# Altium footprint library IPC-7355 CQFP_Sq_63P_Side_N.PcbLib: 4 footprints
Each footprint in its own frame and in the unit in brackets; x right, y up, seen from the top. Pads: shape width x height; smd on the part's side, far side on the other; paste and mask are expansions set on the pad; w line width, h text height; cw(c..) or ccw(c..) is an arc to the next point about the centre after c.
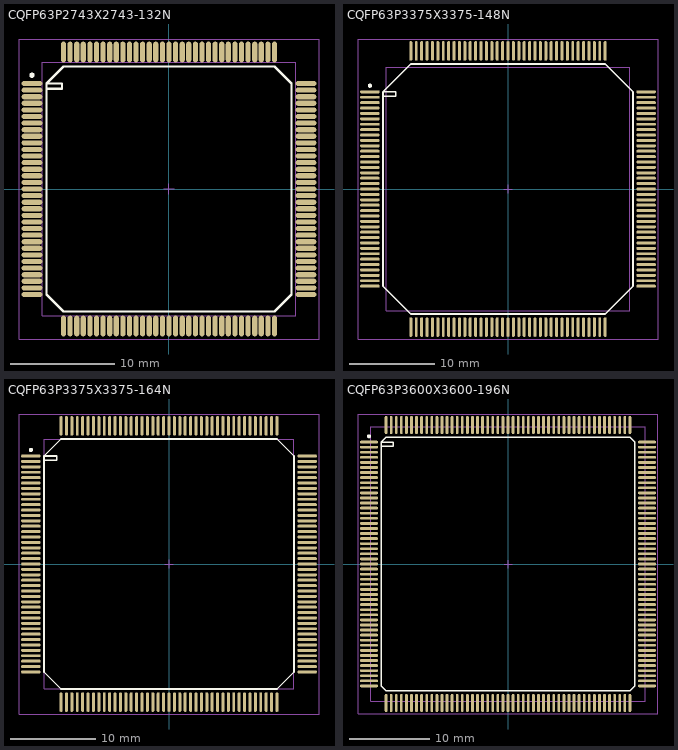
[diagram p0: the footprints below, top view; thin cyan lines are the x and y axes]

## CQFP63P2743X2743-132N [mm] "CQFP, 132-Leads, Body 24x24mm; Pitch 0.635mm, Gullwing Leadform, IPC Medium Density"
height 3.6
pads (132):
  oval 2x0.5 smd: 1(-13.2,10.16) 2(-13.2,9.525) 3(-13.2,8.89) 4(-13.2,8.255) 5(-13.2,7.62) 6(-13.2,6.985) 7(-13.2,6.35) 8(-13.2,5.715) 9(-13.2,5.08) 10(-13.2,4.445) 11(-13.2,3.81) 12(-13.2,3.175) 13(-13.2,2.54) 14(-13.2,1.905) 15(-13.2,1.27) 16(-13.2,0.635) 17(-13.2,0) 18(-13.2,-0.635) 19(-13.2,-1.27) 20(-13.2,-1.905) 21(-13.2,-2.54) 22(-13.2,-3.175) 23(-13.2,-3.81) 24(-13.2,-4.445) 25(-13.2,-5.08) 26(-13.2,-5.715) 27(-13.2,-6.35) 28(-13.2,-6.985) 29(-13.2,-7.62) 30(-13.2,-8.255) 31(-13.2,-8.89) 32(-13.2,-9.525) 33(-13.2,-10.16) 67(13.2,-10.16) 68(13.2,-9.525) 69(13.2,-8.89) 70(13.2,-8.255) 71(13.2,-7.62) 72(13.2,-6.985) 73(13.2,-6.35) 74(13.2,-5.715) 75(13.2,-5.08) 76(13.2,-4.445) 77(13.2,-3.81) 78(13.2,-3.175) 79(13.2,-2.54) 80(13.2,-1.905) 81(13.2,-1.27) 82(13.2,-0.635) 83(13.2,0) 84(13.2,0.635) 85(13.2,1.27) 86(13.2,1.905) 87(13.2,2.54) 88(13.2,3.175) 89(13.2,3.81) 90(13.2,4.445) 91(13.2,5.08) 92(13.2,5.715) 93(13.2,6.35) 94(13.2,6.985) 95(13.2,7.62) 96(13.2,8.255) 97(13.2,8.89) 98(13.2,9.525) 99(13.2,10.16)
  oval 0.5x2 smd: 34(-10.16,-13.2) 35(-9.525,-13.2) 36(-8.89,-13.2) 37(-8.255,-13.2) 38(-7.62,-13.2) 39(-6.985,-13.2) 40(-6.35,-13.2) 41(-5.715,-13.2) 42(-5.08,-13.2) 43(-4.445,-13.2) 44(-3.81,-13.2) 45(-3.175,-13.2) 46(-2.54,-13.2) 47(-1.905,-13.2) 48(-1.27,-13.2) 49(-0.635,-13.2) 50(0,-13.2) 51(0.635,-13.2) 52(1.27,-13.2) 53(1.905,-13.2) 54(2.54,-13.2) 55(3.175,-13.2) 56(3.81,-13.2) 57(4.445,-13.2) 58(5.08,-13.2) 59(5.715,-13.2) 60(6.35,-13.2) 61(6.985,-13.2) 62(7.62,-13.2) 63(8.255,-13.2) 64(8.89,-13.2) 65(9.525,-13.2) 66(10.16,-13.2) 100(10.16,13.2) 101(9.525,13.2) 102(8.89,13.2) 103(8.255,13.2) 104(7.62,13.2) 105(6.985,13.2) 106(6.35,13.2) 107(5.715,13.2) 108(5.08,13.2) 109(4.445,13.2) 110(3.81,13.2) 111(3.175,13.2) 112(2.54,13.2) 113(1.905,13.2) 114(1.27,13.2) 115(0.635,13.2) 116(0,13.2) 117(-0.635,13.2) 118(-1.27,13.2) 119(-1.905,13.2) 120(-2.54,13.2) 121(-3.175,13.2) 122(-3.81,13.2) 123(-4.445,13.2) 124(-5.08,13.2) 125(-5.715,13.2) 126(-6.35,13.2) 127(-6.985,13.2) 128(-7.62,13.2) 129(-8.255,13.2) 130(-8.89,13.2) 131(-9.525,13.2) 132(-10.16,13.2)
Top Overlay:
  circle w0.25: c-13.2,10.96 r0.125
  lines w0.2: -11.8,9.66 -10.3,9.66 -10.3,10.16 -11.8,10.16 ; -11.8,10.16 -10.16,11.8 10.16,11.8 11.8,10.16 11.8,-10.16 10.16,-11.8 -10.16,-11.8 -11.8,-10.16 -11.8,10.16
Mechanical 13:
  lines w0.1: -12.19,-12.19 12.19,-12.19 12.19,12.19 -12.19,12.19 -12.19,-12.19
Mechanical 15:
  lines w0.1: -0.5,0 0.5,0 ; 0,-0.5 0,0.5 ; -14.45,-14.45 14.45,-14.45 14.45,14.45 -14.45,14.45 -14.45,-14.45
3D body: height 3.6, standoff 0, extent -12.19,-12.19 12.19,12.19

## CQFP63P3375X3375-148N [mm] "CQFP, 148-Leads, Body 28.5x28.5mm; Pitch 0.635mm, Gullwing Leadform, IPC Medium Density"
height 3.1
pads (148):
  oval 2.3x0.35 smd: 1(-16.25,11.43) 2(-16.25,10.795) 3(-16.25,10.16) 4(-16.25,9.525) 5(-16.25,8.89) 6(-16.25,8.255) 7(-16.25,7.62) 8(-16.25,6.985) 9(-16.25,6.35) 10(-16.25,5.715) 11(-16.25,5.08) 12(-16.25,4.445) 13(-16.25,3.81) 14(-16.25,3.175) 15(-16.25,2.54) 16(-16.25,1.905) 17(-16.25,1.27) 18(-16.25,0.635) 19(-16.25,0) 20(-16.25,-0.635) 21(-16.25,-1.27) 22(-16.25,-1.905) 23(-16.25,-2.54) 24(-16.25,-3.175) 25(-16.25,-3.81) 26(-16.25,-4.445) 27(-16.25,-5.08) 28(-16.25,-5.715) 29(-16.25,-6.35) 30(-16.25,-6.985) 31(-16.25,-7.62) 32(-16.25,-8.255) 33(-16.25,-8.89) 34(-16.25,-9.525) 35(-16.25,-10.16) 36(-16.25,-10.795) 37(-16.25,-11.43) 75(16.25,-11.43) 76(16.25,-10.795) 77(16.25,-10.16) 78(16.25,-9.525) 79(16.25,-8.89) 80(16.25,-8.255) 81(16.25,-7.62) 82(16.25,-6.985) 83(16.25,-6.35) 84(16.25,-5.715) 85(16.25,-5.08) 86(16.25,-4.445) 87(16.25,-3.81) 88(16.25,-3.175) 89(16.25,-2.54) 90(16.25,-1.905) 91(16.25,-1.27) 92(16.25,-0.635) 93(16.25,0) 94(16.25,0.635) 95(16.25,1.27) 96(16.25,1.905) 97(16.25,2.54) 98(16.25,3.175) 99(16.25,3.81) 100(16.25,4.445) 101(16.25,5.08) 102(16.25,5.715) 103(16.25,6.35) 104(16.25,6.985) 105(16.25,7.62) 106(16.25,8.255) 107(16.25,8.89) 108(16.25,9.525) 109(16.25,10.16) 110(16.25,10.795) 111(16.25,11.43)
  oval 0.35x2.3 smd: 38(-11.43,-16.25) 39(-10.795,-16.25) 40(-10.16,-16.25) 41(-9.525,-16.25) 42(-8.89,-16.25) 43(-8.255,-16.25) 44(-7.62,-16.25) 45(-6.985,-16.25) 46(-6.35,-16.25) 47(-5.715,-16.25) 48(-5.08,-16.25) 49(-4.445,-16.25) 50(-3.81,-16.25) 51(-3.175,-16.25) 52(-2.54,-16.25) 53(-1.905,-16.25) 54(-1.27,-16.25) 55(-0.635,-16.25) 56(0,-16.25) 57(0.635,-16.25) 58(1.27,-16.25) 59(1.905,-16.25) 60(2.54,-16.25) 61(3.175,-16.25) 62(3.81,-16.25) 63(4.445,-16.25) 64(5.08,-16.25) 65(5.715,-16.25) 66(6.35,-16.25) 67(6.985,-16.25) 68(7.62,-16.25) 69(8.255,-16.25) 70(8.89,-16.25) 71(9.525,-16.25) 72(10.16,-16.25) 73(10.795,-16.25) 74(11.43,-16.25) 112(11.43,16.25) 113(10.795,16.25) 114(10.16,16.25) 115(9.525,16.25) 116(8.89,16.25) 117(8.255,16.25) 118(7.62,16.25) 119(6.985,16.25) 120(6.35,16.25) 121(5.715,16.25) 122(5.08,16.25) 123(4.445,16.25) 124(3.81,16.25) 125(3.175,16.25) 126(2.54,16.25) 127(1.905,16.25) 128(1.27,16.25) 129(0.635,16.25) 130(0,16.25) 131(-0.635,16.25) 132(-1.27,16.25) 133(-1.905,16.25) 134(-2.54,16.25) 135(-3.175,16.25) 136(-3.81,16.25) 137(-4.445,16.25) 138(-5.08,16.25) 139(-5.715,16.25) 140(-6.35,16.25) 141(-6.985,16.25) 142(-7.62,16.25) 143(-8.255,16.25) 144(-8.89,16.25) 145(-9.525,16.25) 146(-10.16,16.25) 147(-10.795,16.25) 148(-11.43,16.25)
Top Overlay:
  circle w0.25: c-16.25,12.155 r0.125
  lines w0.2: -14.7,10.93 -13.2,10.93 -13.2,11.43 -14.7,11.43 ; -14.7,11.43 -11.43,14.7 11.43,14.7 14.7,11.43 14.7,-11.43 11.43,-14.7 -11.43,-14.7 -14.7,-11.43 -14.7,11.43
Mechanical 13:
  lines w0.1: -14.355,-14.355 14.355,-14.355 14.355,14.355 -14.355,14.355 -14.355,-14.355
Mechanical 15:
  lines w0.1: -0.5,0 0.5,0 ; 0,-0.5 0,0.5 ; -17.65,-17.65 17.65,-17.65 17.65,17.65 -17.65,17.65 -17.65,-17.65
3D body: height 3.1, standoff 0, extent -14.355,-14.355 14.355,14.355

## CQFP63P3375X3375-164N [mm] "CQFP, 164-Leads, Body 29x29mm; Pitch 0.635mm, Gullwing Leadform, IPC Medium Density"
height 3.4
pads (164):
  oval 2.3x0.35 smd: 1(-16.25,12.7) 2(-16.25,12.065) 3(-16.25,11.43) 4(-16.25,10.795) 5(-16.25,10.16) 6(-16.25,9.525) 7(-16.25,8.89) 8(-16.25,8.255) 9(-16.25,7.62) 10(-16.25,6.985) 11(-16.25,6.35) 12(-16.25,5.715) 13(-16.25,5.08) 14(-16.25,4.445) 15(-16.25,3.81) 16(-16.25,3.175) 17(-16.25,2.54) 18(-16.25,1.905) 19(-16.25,1.27) 20(-16.25,0.635) 21(-16.25,0) 22(-16.25,-0.635) 23(-16.25,-1.27) 24(-16.25,-1.905) 25(-16.25,-2.54) 26(-16.25,-3.175) 27(-16.25,-3.81) 28(-16.25,-4.445) 29(-16.25,-5.08) 30(-16.25,-5.715) 31(-16.25,-6.35) 32(-16.25,-6.985) 33(-16.25,-7.62) 34(-16.25,-8.255) 35(-16.25,-8.89) 36(-16.25,-9.525) 37(-16.25,-10.16) 38(-16.25,-10.795) 39(-16.25,-11.43) 40(-16.25,-12.065) 41(-16.25,-12.7) 83(16.25,-12.7) 84(16.25,-12.065) 85(16.25,-11.43) 86(16.25,-10.795) 87(16.25,-10.16) 88(16.25,-9.525) 89(16.25,-8.89) 90(16.25,-8.255) 91(16.25,-7.62) 92(16.25,-6.985) 93(16.25,-6.35) 94(16.25,-5.715) 95(16.25,-5.08) 96(16.25,-4.445) 97(16.25,-3.81) 98(16.25,-3.175) 99(16.25,-2.54) 100(16.25,-1.905) 101(16.25,-1.27) 102(16.25,-0.635) 103(16.25,0) 104(16.25,0.635) 105(16.25,1.27) 106(16.25,1.905) 107(16.25,2.54) 108(16.25,3.175) 109(16.25,3.81) 110(16.25,4.445) 111(16.25,5.08) 112(16.25,5.715) 113(16.25,6.35) 114(16.25,6.985) 115(16.25,7.62) 116(16.25,8.255) 117(16.25,8.89) 118(16.25,9.525) 119(16.25,10.16) 120(16.25,10.795) 121(16.25,11.43) 122(16.25,12.065) 123(16.25,12.7)
  oval 0.35x2.3 smd: 42(-12.7,-16.25) 43(-12.065,-16.25) 44(-11.43,-16.25) 45(-10.795,-16.25) 46(-10.16,-16.25) 47(-9.525,-16.25) 48(-8.89,-16.25) 49(-8.255,-16.25) 50(-7.62,-16.25) 51(-6.985,-16.25) 52(-6.35,-16.25) 53(-5.715,-16.25) 54(-5.08,-16.25) 55(-4.445,-16.25) 56(-3.81,-16.25) 57(-3.175,-16.25) 58(-2.54,-16.25) 59(-1.905,-16.25) 60(-1.27,-16.25) 61(-0.635,-16.25) 62(0,-16.25) 63(0.635,-16.25) 64(1.27,-16.25) 65(1.905,-16.25) 66(2.54,-16.25) 67(3.175,-16.25) 68(3.81,-16.25) 69(4.445,-16.25) 70(5.08,-16.25) 71(5.715,-16.25) 72(6.35,-16.25) 73(6.985,-16.25) 74(7.62,-16.25) 75(8.255,-16.25) 76(8.89,-16.25) 77(9.525,-16.25) 78(10.16,-16.25) 79(10.795,-16.25) 80(11.43,-16.25) 81(12.065,-16.25) 82(12.7,-16.25) 124(12.7,16.25) 125(12.065,16.25) 126(11.43,16.25) 127(10.795,16.25) 128(10.16,16.25) 129(9.525,16.25) 130(8.89,16.25) 131(8.255,16.25) 132(7.62,16.25) 133(6.985,16.25) 134(6.35,16.25) 135(5.715,16.25) 136(5.08,16.25) 137(4.445,16.25) 138(3.81,16.25) 139(3.175,16.25) 140(2.54,16.25) 141(1.905,16.25) 142(1.27,16.25) 143(0.635,16.25) 144(0,16.25) 145(-0.635,16.25) 146(-1.27,16.25) 147(-1.905,16.25) 148(-2.54,16.25) 149(-3.175,16.25) 150(-3.81,16.25) 151(-4.445,16.25) 152(-5.08,16.25) 153(-5.715,16.25) 154(-6.35,16.25) 155(-6.985,16.25) 156(-7.62,16.25) 157(-8.255,16.25) 158(-8.89,16.25) 159(-9.525,16.25) 160(-10.16,16.25) 161(-10.795,16.25) 162(-11.43,16.25) 163(-12.065,16.25) 164(-12.7,16.25)
Top Overlay:
  circle w0.25: c-16.25,13.425 r0.125
  lines w0.2: -14.7,12.2 -13.2,12.2 -13.2,12.7 -14.7,12.7 ; -14.7,12.7 -12.7,14.7 12.7,14.7 14.7,12.7 14.7,-12.7 12.7,-14.7 -12.7,-14.7 -14.7,-12.7 -14.7,12.7
Mechanical 13:
  lines w0.1: -14.65,-14.65 14.65,-14.65 14.65,14.65 -14.65,14.65 -14.65,-14.65
Mechanical 15:
  lines w0.1: -0.5,0 0.5,0 ; 0,-0.5 0,0.5 ; -17.65,-17.65 17.65,-17.65 17.65,17.65 -17.65,17.65 -17.65,-17.65
3D body: height 3.4, standoff 0, extent -14.65,-14.65 14.65,14.65

## CQFP63P3600X3600-196N [mm] "CQFP, 196-Leads, Body 34x34mm; Pitch 0.635mm, Gullwing Leadform, IPC Medium Density"
height 3.5
pads (196):
  oval 2.25x0.35 smd: 1(-17.375,15.24) 2(-17.375,14.605) 3(-17.375,13.97) 4(-17.375,13.335) 5(-17.375,12.7) 6(-17.375,12.065) 7(-17.375,11.43) 8(-17.375,10.795) 9(-17.375,10.16) 10(-17.375,9.525) 11(-17.375,8.89) 12(-17.375,8.255) 13(-17.375,7.62) 14(-17.375,6.985) 15(-17.375,6.35) 16(-17.375,5.715) 17(-17.375,5.08) 18(-17.375,4.445) 19(-17.375,3.81) 20(-17.375,3.175) 21(-17.375,2.54) 22(-17.375,1.905) 23(-17.375,1.27) 24(-17.375,0.635) 25(-17.375,0) 26(-17.375,-0.635) 27(-17.375,-1.27) 28(-17.375,-1.905) 29(-17.375,-2.54) 30(-17.375,-3.175) 31(-17.375,-3.81) 32(-17.375,-4.445) 33(-17.375,-5.08) 34(-17.375,-5.715) 35(-17.375,-6.35) 36(-17.375,-6.985) 37(-17.375,-7.62) 38(-17.375,-8.255) 39(-17.375,-8.89) 40(-17.375,-9.525) 41(-17.375,-10.16) 42(-17.375,-10.795) 43(-17.375,-11.43) 44(-17.375,-12.065) 45(-17.375,-12.7) 46(-17.375,-13.335) 47(-17.375,-13.97) 48(-17.375,-14.605) 49(-17.375,-15.24) 99(17.375,-15.24) 100(17.375,-14.605) 101(17.375,-13.97) 102(17.375,-13.335) 103(17.375,-12.7) 104(17.375,-12.065) 105(17.375,-11.43) 106(17.375,-10.795) 107(17.375,-10.16) 108(17.375,-9.525) 109(17.375,-8.89) 110(17.375,-8.255) 111(17.375,-7.62) 112(17.375,-6.985) 113(17.375,-6.35) 114(17.375,-5.715) 115(17.375,-5.08) 116(17.375,-4.445) 117(17.375,-3.81) 118(17.375,-3.175) 119(17.375,-2.54) 120(17.375,-1.905) 121(17.375,-1.27) 122(17.375,-0.635) 123(17.375,0) 124(17.375,0.635) 125(17.375,1.27) 126(17.375,1.905) 127(17.375,2.54) 128(17.375,3.175) 129(17.375,3.81) 130(17.375,4.445) 131(17.375,5.08) 132(17.375,5.715) 133(17.375,6.35) 134(17.375,6.985) 135(17.375,7.62) 136(17.375,8.255) 137(17.375,8.89) 138(17.375,9.525) 139(17.375,10.16) 140(17.375,10.795) 141(17.375,11.43) 142(17.375,12.065) 143(17.375,12.7) 144(17.375,13.335) 145(17.375,13.97) 146(17.375,14.605) 147(17.375,15.24)
  oval 0.35x2.25 smd: 50(-15.24,-17.375) 51(-14.605,-17.375) 52(-13.97,-17.375) 53(-13.335,-17.375) 54(-12.7,-17.375) 55(-12.065,-17.375) 56(-11.43,-17.375) 57(-10.795,-17.375) 58(-10.16,-17.375) 59(-9.525,-17.375) 60(-8.89,-17.375) 61(-8.255,-17.375) 62(-7.62,-17.375) 63(-6.985,-17.375) 64(-6.35,-17.375) 65(-5.715,-17.375) 66(-5.08,-17.375) 67(-4.445,-17.375) 68(-3.81,-17.375) 69(-3.175,-17.375) 70(-2.54,-17.375) 71(-1.905,-17.375) 72(-1.27,-17.375) 73(-0.635,-17.375) 74(0,-17.375) 75(0.635,-17.375) 76(1.27,-17.375) 77(1.905,-17.375) 78(2.54,-17.375) 79(3.175,-17.375) 80(3.81,-17.375) 81(4.445,-17.375) 82(5.08,-17.375) 83(5.715,-17.375) 84(6.35,-17.375) 85(6.985,-17.375) 86(7.62,-17.375) 87(8.255,-17.375) 88(8.89,-17.375) 89(9.525,-17.375) 90(10.16,-17.375) 91(10.795,-17.375) 92(11.43,-17.375) 93(12.065,-17.375) 94(12.7,-17.375) 95(13.335,-17.375) 96(13.97,-17.375) 97(14.605,-17.375) 98(15.24,-17.375) 148(15.24,17.375) 149(14.605,17.375) 150(13.97,17.375) 151(13.335,17.375) 152(12.7,17.375) 153(12.065,17.375) 154(11.43,17.375) 155(10.795,17.375) 156(10.16,17.375) 157(9.525,17.375) 158(8.89,17.375) 159(8.255,17.375) 160(7.62,17.375) 161(6.985,17.375) 162(6.35,17.375) 163(5.715,17.375) 164(5.08,17.375) 165(4.445,17.375) 166(3.81,17.375) 167(3.175,17.375) 168(2.54,17.375) 169(1.905,17.375) 170(1.27,17.375) 171(0.635,17.375) 172(0,17.375) 173(-0.635,17.375) 174(-1.27,17.375) 175(-1.905,17.375) 176(-2.54,17.375) 177(-3.175,17.375) 178(-3.81,17.375) 179(-4.445,17.375) 180(-5.08,17.375) 181(-5.715,17.375) 182(-6.35,17.375) 183(-6.985,17.375) 184(-7.62,17.375) 185(-8.255,17.375) 186(-8.89,17.375) 187(-9.525,17.375) 188(-10.16,17.375) 189(-10.795,17.375) 190(-11.43,17.375) 191(-12.065,17.375) 192(-12.7,17.375) 193(-13.335,17.375) 194(-13.97,17.375) 195(-14.605,17.375) 196(-15.24,17.375)
Top Overlay:
  circle w0.25: c-17.375,15.965 r0.125
  lines w0.2: -15.85,14.74 -14.35,14.74 -14.35,15.24 -15.85,15.24 ; -15.85,15.24 -15.24,15.85 15.24,15.85 15.85,15.24 15.85,-15.24 15.24,-15.85 -15.24,-15.85 -15.85,-15.24 -15.85,15.24
Mechanical 13:
  lines w0.1: -17.15,-17.15 17.15,-17.15 17.15,17.15 -17.15,17.15 -17.15,-17.15
Mechanical 15:
  lines w0.1: -0.5,0 0.5,0 ; 0,-0.5 0,0.5 ; -18.75,-18.75 18.75,-18.75 18.75,18.75 -18.75,18.75 -18.75,-18.75
3D body: height 3.5, standoff 0, extent -17.15,-17.15 17.15,17.15